# Altium footprint library FILTER.PcbLib: 1 footprints
Each footprint in its own frame and in the unit in brackets; x right, y up, seen from the top. Pads: shape width x height; smd on the part's side, far side on the other; paste and mask are expansions set on the pad; w line width, h text height; cw(c..) or ccw(c..) is an arc to the next point about the centre after c.
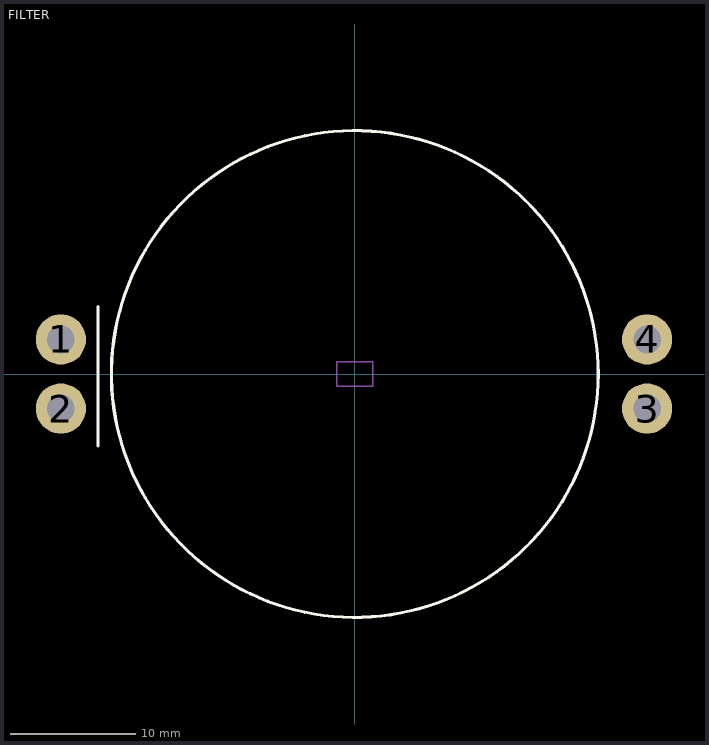
[diagram p0: the footprint, top view; thin cyan lines are the x and y axes]

## FILTER [mm]
height 0.9
pads (4):
  round 4 hole 2.2: 1(-23.4,2.75) 2(-23.4,-2.75) 3(23.275,-2.75) 4(23.275,2.75)
Top Overlay:
  circle w0.254: c0,0 r19.38
  lines w0.254: -20.45,-5.725 -20.45,5.35
Top Assembly:
  lines w0.1: -1.425,-0.975 1.45,-0.975 1.45,0.975 -1.425,0.975 -1.425,-0.975
  text "'.Designator'" at -0.95,0.075 h0.7
3D body "FILTER.STEP": height 21.4, standoff -6.56, extent -24.428,-19 24.365,19